# Altium schematic symbol library Schlib1.SchLib: 8 symbols
Pins are listed as number, name and electrical type; pins without a type are passive.

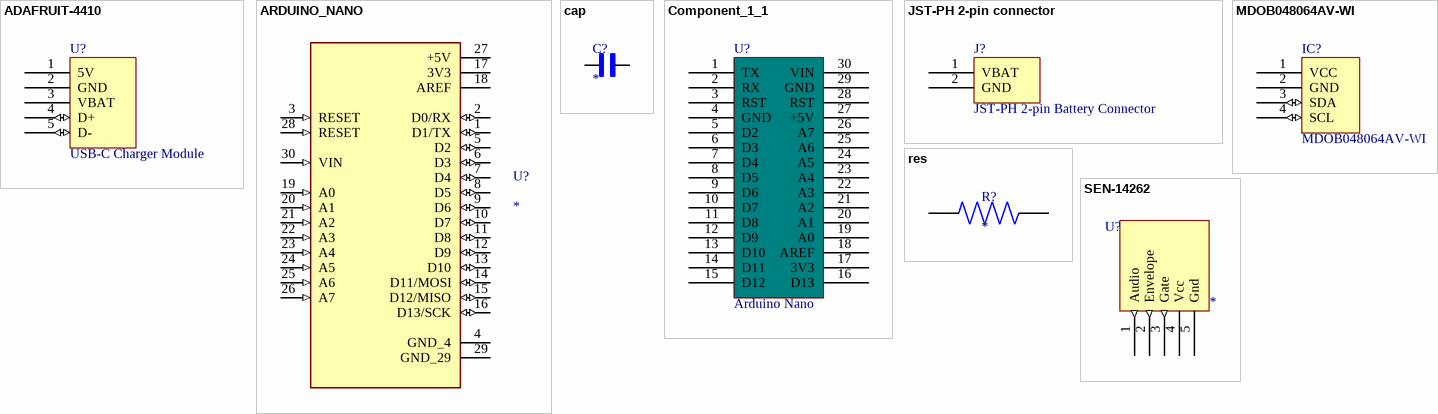
[diagram p0: symbols ADAFRUIT-4410 to SEN-14262]

## ADAFRUIT-4410
designator U?, comment USB-C Charger Module
ADAFRUIT 4410 MICROLIPO USBC MODULE
footprint ADAFRUIT-4410
pins: 1 5V (power), 2 GND (power), 3 VBAT (power), 4 D+ (io), 5 D- (io)

## ARDUINO_NANO
designator U?
Small, complete, and breadboard-friendly board based on the ATmega328 (Arduino Nano 3.x); SnapEDA_Link: https://www.snapeda.com/parts/Arduino%20Nano/Arduino/view-part/?ref=snap; Package: Non-Standard Arduino; Value: *; MF: Arduino; MP: Arduino Nano; Check_prices: https://www.snapeda.com/parts/Arduino%20Nano/Arduino/view-part/?ref=eda
footprint MODULE_ARDUINO_NANO
pins: 1 D1/TX (io), 2 D0/RX (io), 3 RESET (in), 4 GND_4 (power), 5 D2 (io), 6 D3 (io), 7 D4 (io), 8 D5 (io), 9 D6 (io), 10 D7 (io), 11 D8 (io), 12 D9 (io), 13 D10 (io), 14 D11/MOSI (io), 15 D12/MISO (io), 16 D13/SCK (io), 17 3V3 (power), 18 AREF (power), 19 A0 (in), 20 A1 (in), 21 A2 (in), 22 A3 (in), 23 A4 (in), 24 A5 (in), 25 A6 (in), 26 A7 (in), 27 +5V (power), 28 RESET (in), 29 GND_29 (power), 30 VIN (in)

## cap
designator C?
capacitor; MF: AVX; MP: 0805YC103J4T2A; SnapEDA_Link: https://www.snapeda.com/parts/0805YC103J4T2A/AVX/view-part/?ref=snap; Package: 2012 AVX; Value: *; Check_prices: https://www.snapeda.com/parts/0805YC103J4T2A/AVX/view-part/?ref=eda
footprint CAP
pins: 1, 2

## Component_1_1
designator U?, comment Arduino Nano
footprint PCBComponent_1 - duplicate
pins: 1 TX, 2 RX, 3 RST, 4 GND, 5 D2, 6 D3, 7 D4, 8 D5, 9 D6, 10 D7, 11 D8, 12 D9, 13 D10, 14 D11, 15 D12, 16 D13, 17 3V3, 18 AREF, 19 A0, 20 A1, 21 A2, 22 A3, 23 A4, 24 A5, 25 A6, 26 A7, 27 +5V, 28 RST, 29 GND, 30 VIN

## JST-PH 2-pin connector
designator J?, comment JST-PH 2-pin Battery Connector
JST-PH 2-pin LiPo Battery Connector
footprint JST-PH 2-pin connector
pins: 1 VBAT (power), 2 GND (power)

## MDOB048064AV-WI
designator IC?
LED
footprint MDOB048064AV-WI
pins: 1 VCC (power), 2 GND (power), 3 SDA (io), 4 SCL (io)

## res
designator R?
Resistor; MF: Yageo; MP: RC0805FR-07330RL; SnapEDA_Link: https://www.snapeda.com/parts/RC0805FR-07330RL/Yageo/view-part/?ref=snap; Package: 2012 Yageo; Value: *; Check_prices: https://www.snapeda.com/parts/RC0805FR-07330RL/Yageo/view-part/?ref=eda
footprint RES
pins: 1, 2

## SEN-14262
designator U?
Audio sensor
footprint SEN-14262
pins: 1 Audio (out), 2 Envelope (out), 3 Gate (out), 4 Vcc (power), 5 Gnd (power)